# Altium footprint library PcbLib1.PcbLib: 12 footprints
Each footprint in its own frame and in the unit in brackets; x right, y up, seen from the top. Pads: shape width x height; smd on the part's side, far side on the other; paste and mask are expansions set on the pad; w line width, h text height; cw(c..) or ccw(c..) is an arc to the next point about the centre after c.
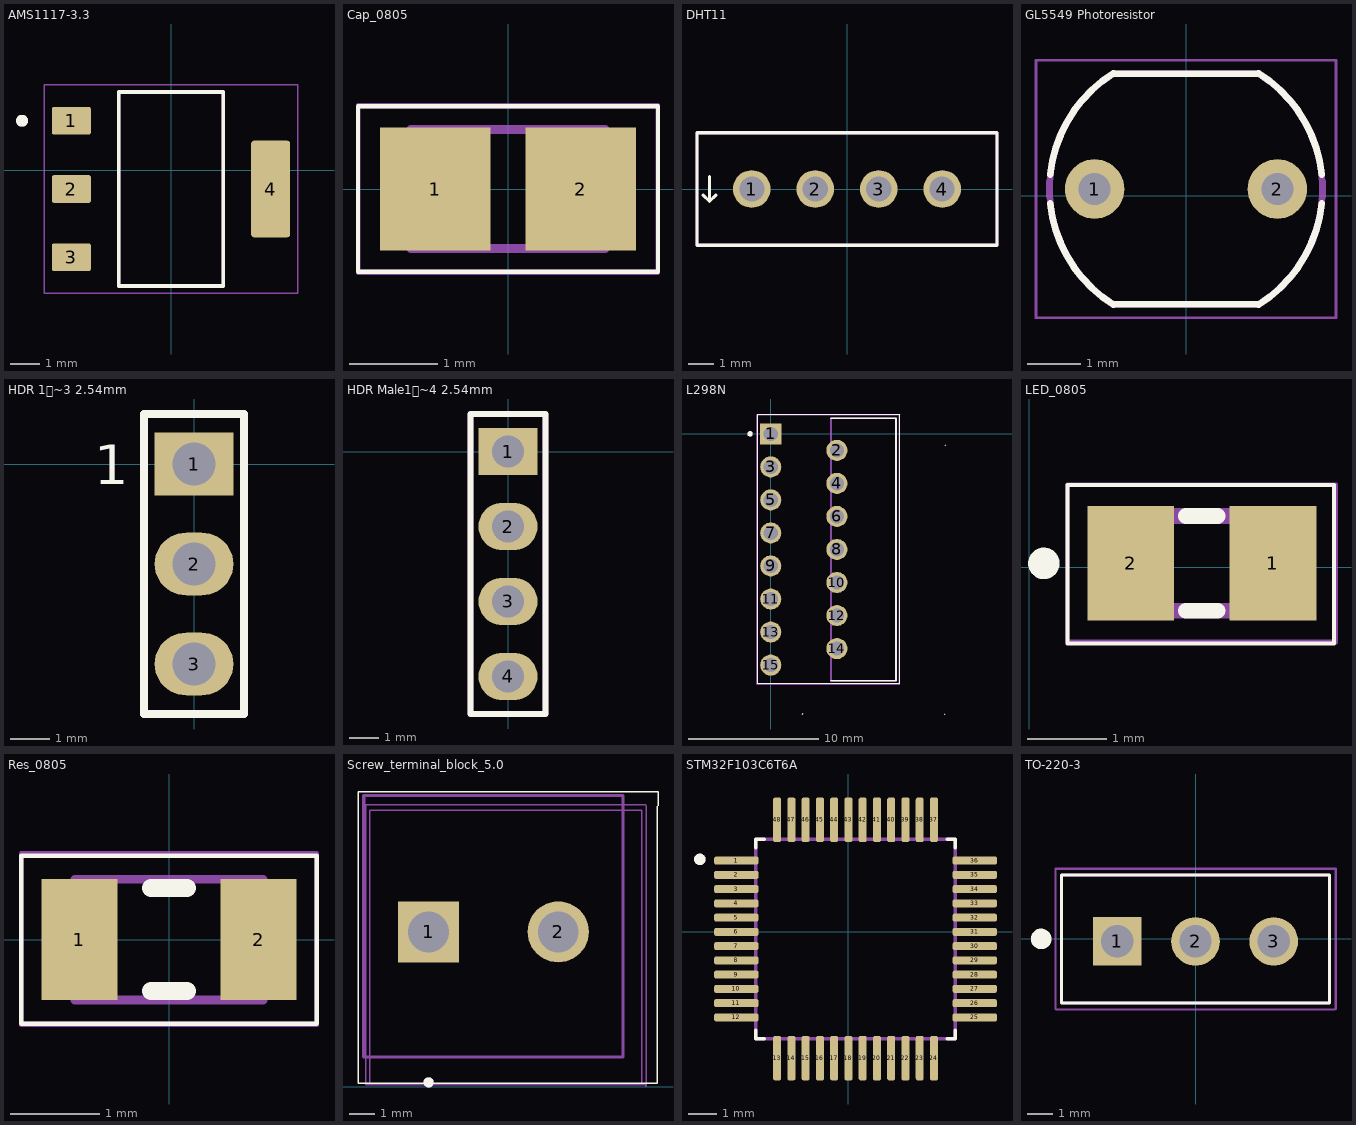
[diagram p0: the footprints below, top view; thin cyan lines are the x and y axes]

## AMS1117-3.3 [mm]
pads (4):
  rrect15% 1.31x0.93 smd: 1(-3.345,1.655) 2(-3.345,-0.635) 3(-3.345,-2.925)
  rrect15% 1.31x3.24 smd: 4(3.345,-0.635)
Top Overlay:
  circle w0.2: c-5,1.655 r0.1
  lines w0.127: -1.753,-3.888 -1.753,2.618 1.753,2.618 1.753,-3.888 -1.753,-3.888
Mechanical 13:
  circle w0.2: c-5,1.655 r0.1
  lines w0.127: -1.753,-3.888 -1.753,2.618 1.753,2.618 1.753,-3.888 -1.753,-3.888
Mechanical 15:
  lines w0.05: -4.25,-4.137 4.25,-4.137 4.25,2.867 -4.25,2.867 -4.25,-4.137
3D body "step_temp.STEP": height 1.8, standoff 0, extent -3.251,-4.134 3.251,2.864

## Cap_0805 [mm] "Chip2PinSM127P600-8N"
height 1.25
pads (2):
  rect 1.25x1.4 smd: 1(-0.825,0) 2(0.825,0)
Top Overlay:
  lines w0.05: -1.702,-0.94 -1.702,0.94 1.702,0.94 1.702,-0.94 -1.702,-0.94
Mechanical 13:
  lines w0.1: -1.1,-0.675 1.1,-0.675 1.1,0.675 -1.1,0.675 -1.1,-0.675
Mechanical 15:
  lines w0.05: -1.7,-0.95 1.7,-0.95 1.7,0.95 -1.7,0.95 -1.7,-0.95
Mechanical 29:
  lines w0.05: -1.702,-0.94 -1.702,0.94 1.702,0.94 1.702,-0.94 -1.702,-0.94
3D body "Cap_0805.step": height 1.25, standoff 0, extent -1.1,-0.675 1.1,0.675

## DHT11 [mm]
pads (4):
  round 1.508 hole 1: 1(-3.81,0) 2(-1.27,0) 3(1.27,0) 4(3.81,0)
Top Overlay:
  lines w0.127: -5.5,0.5 -5.5,-0.5 ; -5.25,-0.25 -5.5,-0.5 ; -5.5,-0.5 -5.75,-0.25 -5.5,-0.5 ; -6,-2.25 6,-2.25 6,2.25 -6,2.25 -6,-2.25
Mechanical 13:
  lines w0.127: -6,-2.25 6,-2.25 6,2.25 -6,2.25 -6,-2.25
Mechanical 15:
  lines w0.127: -6,-2.25 6,-2.25 6,2.25 -6,2.25 -6,-2.25
3D body "step_temp.STEP": height 16, standoff -7.7, extent -6.25,-3 6.25,3

## GL5549 Photoresistor [mm]
pads (2):
  round 1.108 hole 0.6: 1(-1.7,0.127) 2(1.7,0.127)
Top Overlay:
  lines w0.127: -2.526,-0.138 ccw(c0.001,0.128) -1.346,-2.027 ; -2.526,0.392 cw(c0.001,0.126) -1.346,2.281 ; -1.36,2.272 1.36,2.272 ; 1.346,-2.027 ccw(c-0.001,0.128) 2.526,-0.138 ; 1.346,2.281 cw(c-0.001,0.126) 2.526,0.392 ; 1.36,-2.018 -1.36,-2.018 ; -1.36,-2.018 -1.36,-2.018 ; 1.36,2.272 1.36,2.272
Mechanical 13:
  lines w0.127: -1.36,-2.018 1.36,-2.018 ; -1.36,2.272 1.36,2.272 ; -1.346,-2.027 cw(c0,0.127) -1.346,2.281 ; 1.346,-2.027 ccw(c0,0.127) 1.346,2.281
Mechanical 15:
  lines w0.05: -2.79,-2.268 -2.79,2.522 2.79,2.522 2.79,-2.268 -2.79,-2.268
3D body "step_temp.STEP": height 2.38, standoff -26, extent -2.54,-2.018 2.54,2.272

## HDR 1~3 2.54mm [mm]
pads (3):
  rect 2x1.6 hole 1.1: 1(0,0)
  oval 2x1.6 hole 1.1: 2(0,-2.54) 3(0,-5.08)
Top Overlay:
  lines w0.2: -1.27,-6.35 -1.27,1.27 1.27,1.27 1.27,-6.35 0.635,-6.35 -0.635,-6.35 -1.27,-6.35
  text "1" at -2.54,-0.508 h1
Mechanical 2:
  lines w0.2: -1.27,-6.35 -1.27,1.27 -0.635,1.27 0.635,1.27 1.27,1.27 1.27,-6.35 0.635,-6.35 -0.635,-6.35 -1.27,-6.35
  text ".Designator" at 0.254,-3.556 h1.52
3D body "HDR_1x3_White.stp": height 8.39, standoff -3.11, extent -1.245,-6.15 1.165,1.07

## HDR Male1~4 2.54mm [mm]
pads (4):
  rect 2x1.6 hole 1.1: 1(0,0)
  oval 2x1.6 hole 1.1: 2(0,-2.54) 3(0,-5.08) 4(0,-7.62)
Top Overlay:
  lines w0.2: -1.27,-8.89 1.27,-8.89 1.27,1.27 -1.27,1.27 -1.27,-8.865
Mechanical 2:
  lines w0.2: -1.27,-8.89 -0.635,-8.89 0.635,-8.89 1.27,-8.89 1.27,1.27 -1.27,1.27 -1.27,-8.865
  text "1" at -2.54,-0.508 h1
  text ".Designator" at 0.432,-4.674 h1.52
3D body "HDR_1x4_White.stp": height 8.39, standoff -3.11, extent -1.27,-8.677 1.14,1.083

## L298N [mm]
pads (15):
  rect 1.62x1.62 hole 1.08: 1(0,0)
  round 1.62 hole 1.08: 2(5.08,-1.27) 3(0,-2.54) 4(5.08,-3.81) 5(0,-5.08) 6(5.08,-6.35) 7(0,-7.62) 8(5.08,-8.89) 9(0,-10.16) 10(5.08,-11.43) 11(0,-12.7) 12(5.08,-13.97) 13(0,-15.24) 14(5.08,-16.51) 15(0,-17.78)
Top Overlay:
  circle w0.2: c-1.59,0 r0.1
  lines w0.05: -1.041,-19.177 9.906,-19.177 9.881,-19.202 ; -0.991,-19.126 -0.991,1.524 9.906,1.524 ; 2.438,-21.539 2.489,-21.488 ; 9.931,-19.152 9.931,1.499 ; 13.386,-21.539 13.411,-21.514 ; 13.386,-0.838 13.411,-0.864
  lines w0.127: 4.63,-18.99 9.63,-18.99 9.63,1.21 4.63,1.21
Mechanical 13:
  circle w0.2: c-1.59,0 r0.1
  lines w0.127: 4.63,-18.99 4.63,1.21 9.63,1.21 9.63,-18.99 4.63,-18.99
Mechanical 15:
  lines w0.05: -1.06,-19.24 -1.06,1.46 9.88,1.46 9.88,-19.24 -1.06,-19.24
Mechanical 29:
  lines w0.05: 9.881,-19.202 -1.067,-19.202 -1.016,-19.152 -1.016,1.499 9.881,1.499 9.906,1.473 9.906,-19.177
3D body "step_temp.STEP": height 17.5, standoff -7.47, extent -0.543,-18.93 9.347,1.27

## LED_0805 [mm]
pads (2):
  rect 1.1x1.45 smd: 1(3.084,0.051) 2(1.284,0.051)
Top Overlay:
  circle w0.2: c0.184,0.051 r0.1
  lines w0.05: 0.483,-0.965 3.861,-0.965 3.861,1.041 0.483,1.041 0.483,-0.965
  lines w0.2: 1.984,-0.549 2.384,-0.549 ; 1.984,0.651 2.384,0.651
Mechanical 13:
  region: 3.184,-0.549 2.684,-0.549 2.684,0.651 3.184,0.651
  region: 1.684,-0.549 1.184,-0.549 1.184,0.651 1.684,0.651
  lines w0.2: 1.184,-0.549 1.184,0.651 3.184,0.651 3.184,-0.549 1.184,-0.549
Mechanical 15:
  lines w0.05: 0.484,-0.949 0.484,1.051 3.884,1.051 3.884,-0.949 0.484,-0.949
Mechanical 29:
  lines w0.05: 0.483,-0.94 3.861,-0.94 3.861,1.041 0.483,1.041 0.483,-0.94
3D body "step_temp.STEP": height 0.7, standoff 0, extent 1.184,-0.574 3.184,0.676

## Res_0805 [mm] "Chip2PinSM127P600-8N"
height 0.6
pads (2):
  rect 0.85x1.35 smd: 1(-1,0) 2(1,0)
Top Overlay:
  lines w0.05: -1.651,-0.94 -1.651,0.94 1.651,0.94 1.651,-0.94 -1.651,-0.94
  lines w0.2: -0.2,-0.575 0.2,-0.575 ; -0.2,0.575 0.2,0.575
Mechanical 13:
  lines w0.1: -1.05,-0.675 -1.05,0.675 1.05,0.675 1.05,-0.675 -1.05,-0.675
Mechanical 15:
  lines w0.05: -1.65,-0.95 -1.65,0.95 1.65,0.95 1.65,-0.95 -1.65,-0.95
Mechanical 29:
  lines w0.05: -1.651,-0.94 -1.651,0.965 1.651,0.965 1.651,-0.94 -1.651,-0.94
3D body "Res_0805.step": height 0.6, standoff 0, extent -1.05,-0.675 1.05,0.675

## Screw_terminal_block_5.0 [mm]
pads (2):
  rect 2.4x2.4 / inner round 2.4 / far side rect 2.4x2.4 hole 1.6: 1(4.267,6.071)
  round 2.4 hole 1.6: 2(9.347,6.071)
Top Overlay:
  circle w0.2: c4.267,0.171 r0.1
  lines w0.05: 13.233,10.998 13.233,0.127 1.499,0.127 1.499,11.557 13.259,11.557 13.259,11.024
Mechanical 13:
  circle w0.2: c4.267,0.171 r0.1
  lines w0.127: 1.727,1.171 1.727,11.421 11.887,11.421 11.887,1.171 1.727,1.171
Mechanical 15:
  lines w0.05: 1.96,0.082 1.96,10.832 12.62,10.832 12.62,0.082 1.96,0.082
Mechanical 29:
  lines w0.05: 1.778,11.049 1.803,11.024 1.803,0.076 12.751,0.076 12.802,0.025 12.802,11.024 12.776,11.049 1.778,11.049
3D body "step_temp.STEP": height 14, standoff -3.7, extent 1.884,0.559 12.644,10.809

## STM32F103C6T6A [mm]
pads (48):
  rrect50% 1.56x0.28 smd: 1(-3.926,2.496) 2(-3.926,1.996) 3(-3.926,1.496) 4(-3.926,0.996) 5(-3.926,0.496) 6(-3.926,-0.004) 7(-3.926,-0.504) 8(-3.926,-1.004) 9(-3.926,-1.504) 10(-3.926,-2.004) 11(-3.926,-2.504) 12(-3.926,-3.004) 25(4.434,-3.004) 26(4.434,-2.504) 27(4.434,-2.004) 28(4.434,-1.504) 29(4.434,-1.004) 30(4.434,-0.504) 31(4.434,-0.004) 32(4.434,0.496) 33(4.434,0.996) 34(4.434,1.496) 35(4.434,1.996) 36(4.434,2.496)
  rrect50% 0.28x1.56 smd: 13(-2.496,-4.434) 14(-1.996,-4.434) 15(-1.496,-4.434) 16(-0.996,-4.434) 17(-0.496,-4.434) 18(0.004,-4.434) 19(0.504,-4.434) 20(1.004,-4.434) 21(1.504,-4.434) 22(2.004,-4.434) 23(2.504,-4.434) 24(3.004,-4.434) 37(3.004,3.926) 38(2.504,3.926) 39(2.004,3.926) 40(1.504,3.926) 41(1.004,3.926) 42(0.504,3.926) 43(0.004,3.926) 44(-0.496,3.926) 45(-0.996,3.926) 46(-1.496,3.926) 47(-1.996,3.926) 48(-2.496,3.926)
Top Overlay:
  circle w0.2: c-5.207,2.54 r0.1
  lines w0.127: -3.246,-3.464 -3.246,-3.754 -2.956,-3.754 ; -3.246,2.956 -3.246,3.246 -2.956,3.246 ; 3.464,-3.754 3.754,-3.754 3.754,-3.464 ; 3.464,3.246 3.754,3.246 3.754,2.956
Mechanical 13:
  circle w0.2: c-5.207,2.54 r0.1
  lines w0.127: -3.246,-3.754 3.754,-3.754 3.754,3.246 -3.246,3.246 -3.246,-3.754
3D body "step_temp.STEP": height 0.72, standoff -0.87, extent -4.246,-4.754 4.754,4.246

## TO-220-3 [mm]
pads (3):
  rect 1.89x1.89 / inner round 1.89 / far side rect 1.89x1.89 hole 1.26: 1(-3.04,-0.095)
  round 1.89 hole 1.26: 2(0,-0.095) 3(3.04,-0.095)
Top Overlay:
  circle w0.4: c-6,0 r0.2
  lines w0.127: -5.21,-2.49 -5.21,2.49 5.21,2.49 5.21,-2.49 -5.21,-2.49
Mechanical 13:
  circle w0.4: c-3.04,-0.095 r0.2
  lines w0.127: -5.21,-2.49 -5.21,2.49 5.21,2.49 5.21,-2.49 -5.21,-2.49
Mechanical 15:
  lines w0.05: -5.46,-2.74 5.46,-2.74 5.46,2.74 -5.46,2.74 -5.46,-2.74
Mechanical 29:
  lines w0.05: -5.461,2.718 5.436,2.718 5.436,-2.743 -5.436,-2.743 -5.436,2.692
3D body "step_temp.STEP": height 19.22, standoff -9.68, extent -5.1,-1.488 5.1,3.013